# EAGLE library part 8_PINS (library WallerLabLib)
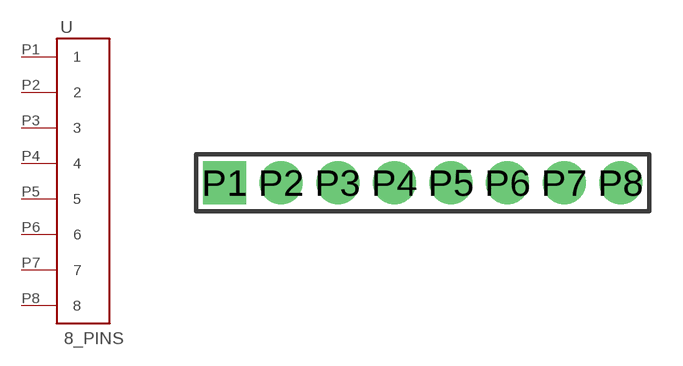
[diagram p12: symbol with the pads of 8PIN_HOLES; footprint 8PIN_HOLES]

Designator prefix -

## 8_PINSV0  [8PIN_HOLES]
P1  1
P2  2
P3  3
P4  4
P5  5
P6  6
P7  7
P8  8

## Footprint 8PIN_HOLES (pad centres in mm)
drill 0.9 pad 1.93 square: P1 0,0
drill 0.9 pad 1.93: P2 2.54,0; P3 5.08,0; P4 7.62,0; P5 10.16,0; P6 12.7,0; P7 15.24,0; P8 17.78,0